# EAGLE library part LTC3429 (library wa7iut)
LTC3429 600mA, 500kHz Micropower Synchronous Boost Converter with Output Disconnect
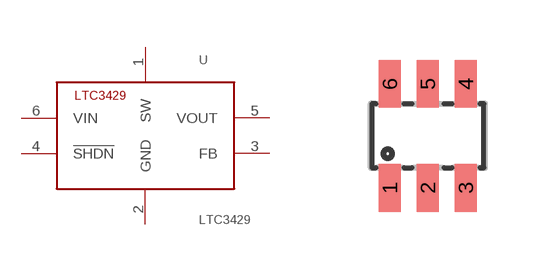
[diagram p0: symbol with the pads of SOT23-6; footprint SOT23-6]

Designator prefix -

## LTC3429  [SOT23-6]
1  SW  in
2  GND  in
3  FB  out
4  !SHDN  in
5  VOUT  out
6  VIN  pwr

## Footprint SOT23-6 (pad centres in mm)
SOT23-6
smd 0.55 x 1.2: 1 -0.95,-1.3; 2 0,-1.3; 3 0.95,-1.3; 4 0.95,1.3; 5 0,1.3; 6 -0.95,1.3